# Altium footprint library DFN2x2-6L.PcbLib: 1 footprints
Each footprint in its own frame and in the unit in brackets; x right, y up, seen from the top. Pads: shape width x height; smd on the part's side, far side on the other; paste and mask are expansions set on the pad; w line width, h text height; cw(c..) or ccw(c..) is an arc to the next point about the centre after c.
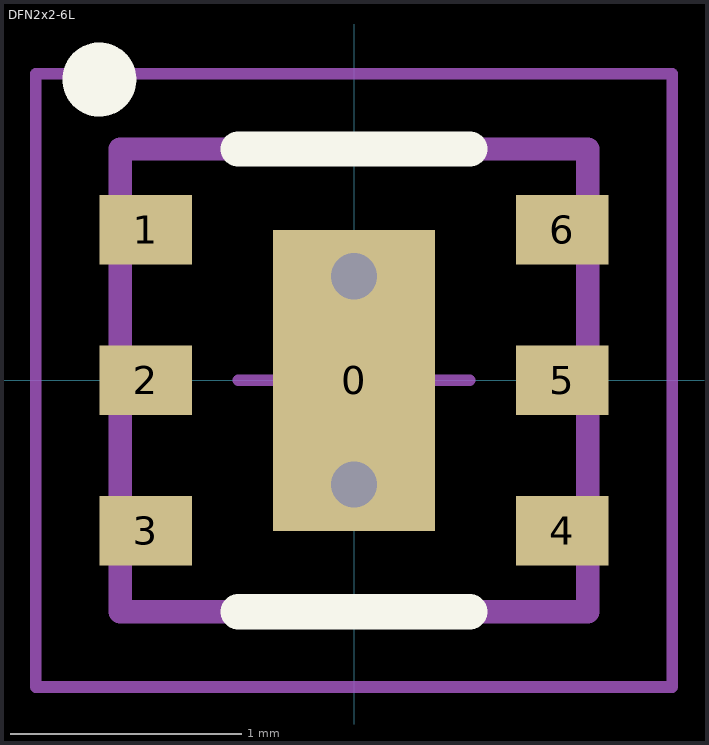
[diagram p0: the footprint, top view; thin cyan lines are the x and y axes]

## DFN2x2-6L [mm]
height 0.75
pads (7):
  rect 0.7x1.3 smd: 0(0,0)
  rect 0.4x0.3 smd: 1(-0.9,0.65) 2(-0.9,0) 3(-0.9,-0.65) 4(0.9,-0.65) 5(0.9,0) 6(0.9,0.65)
via 0,0.45 diameter 0.4 hole 0.2
via 0,-0.45 diameter 0.4 hole 0.2
Top Overlay:
  circle w0.16: c-1.1,1.3 r0.08
  lines w0.152: -0.5,-1 0.5,-1 ; -0.5,1 0.5,1
Mechanical 13:
  lines w0.1: -1.01,-1 1.01,-1 1.01,1 -1.01,1 -1.01,-1
Mechanical 15:
  lines w0.05: -0.5,0 0.5,0 ; 0,-0.5 0,0.5 ; -1.375,-1.325 -1.375,1.325 1.375,1.325 1.375,-1.325 -1.375,-1.325
3D body: height 0.75, standoff -0.02, extent -1.01,-1 1.01,1